# EAGLE library part I-00040_LT-5003D (library Akizuki)
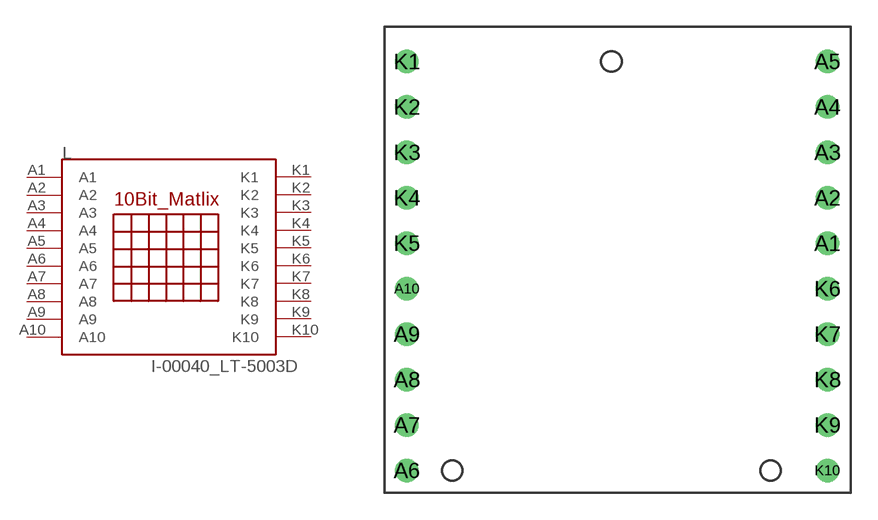
[diagram p3: symbol with the pads of MATLIX_10X10; footprint MATLIX_10X10]

Designator prefix L

## I-00040_LT-5003D  [MATLIX_10X10]
A1  A1
A2  A2
A3  A3
A4  A4
A5  A5
A6  A6
A7  A7
A8  A8
A9  A9
A10  A10
K1  K1
K2  K2
K3  K3
K4  K4
K5  K5
K6  K6
K7  K7
K8  K8
K9  K9
K10  K10

## Footprint MATLIX_10X10 (pad centres in mm)
drill 0.8: A1 23.5,12.7; A2 23.5,15.24; A3 23.5,17.78; A4 23.5,20.32; A5 23.5,22.86; A6 0,0; A7 0,2.54; A8 0,5.08; A9 0,7.62; A10 0,10.16; K1 0,22.86; K2 0,20.32; K3 0,17.78; K4 0,15.24; K5 0,12.7; K6 23.5,10.16; K7 23.5,7.62; K8 23.5,5.08; K9 23.5,2.54; K10 23.5,0